# Altium footprint library 5_Pin_ScrewTerm.PcbLib: 1 footprints
Each footprint in its own frame and in the unit in brackets; x right, y up, seen from the top. Pads: shape width x height; smd on the part's side, far side on the other; paste and mask are expansions set on the pad; w line width, h text height; cw(c..) or ccw(c..) is an arc to the next point about the centre after c.
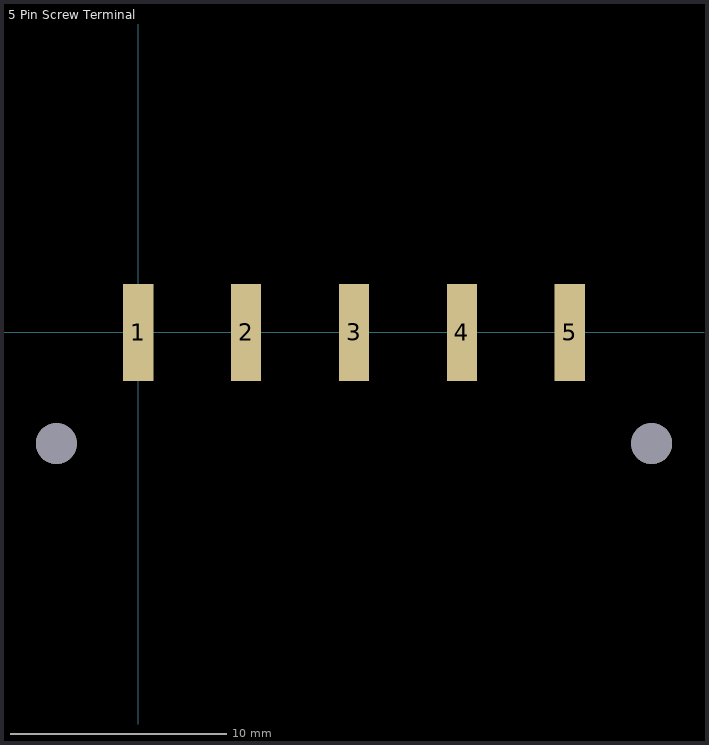
[diagram p0: the footprint, top view; thin cyan lines are the x and y axes]

## 5 Pin Screw Terminal [mm]
pads (7):
  rect 1.4x4.5 smd: 1(0,0) 2(5,0) 3(10,0) 4(15,0) 5(20,0)
  round 1.9 hole 1.9: ""(-3.8,-5.15) ""(23.8,-5.15)
3D body "691709710305 (rev1).stp": height 10.95, standoff -1.75, extent -4.572,-9.712 24.428,1.838